# Altium integrated library Linear Technology Power Management System Supervisor, Monitor and Control.IntLib: 1611 symbols (part 53 of 100)
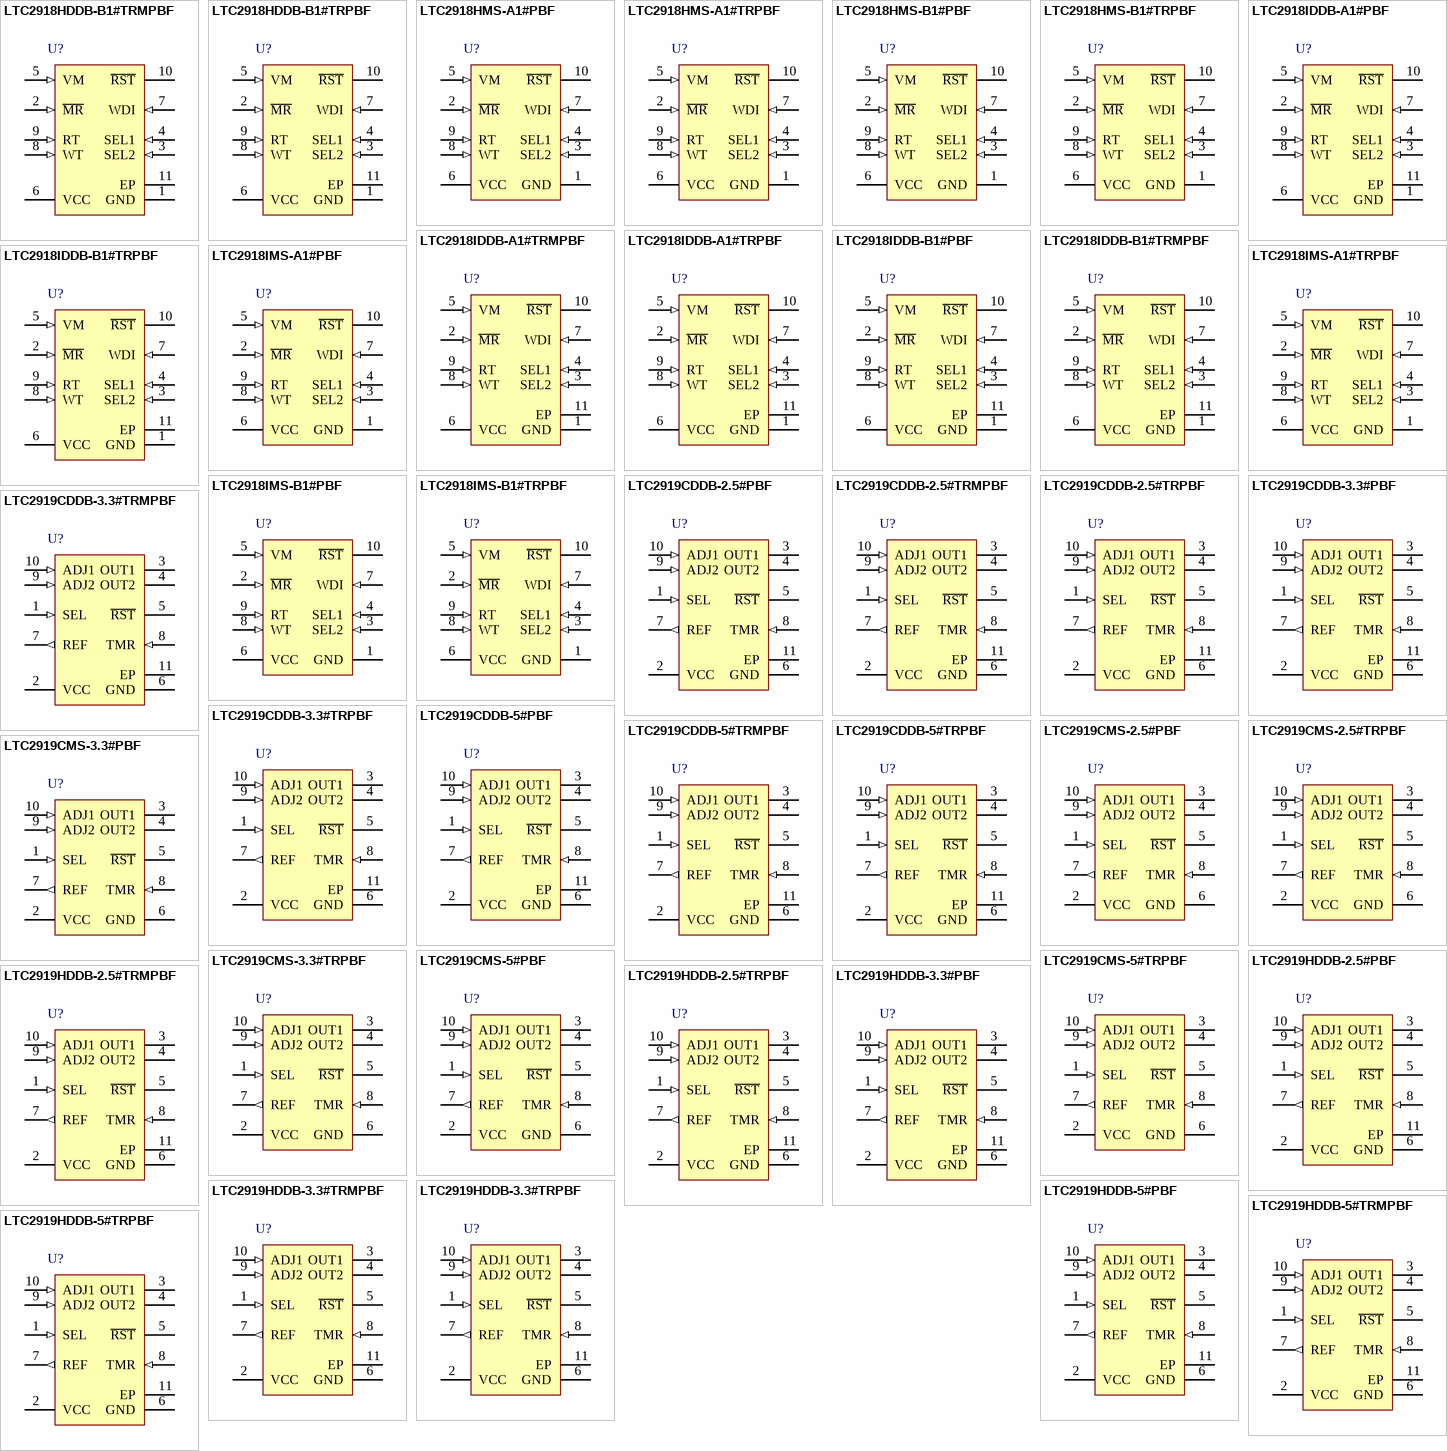
[diagram p97: symbols LTC2918HDDB-B1#TRMPBF to LTC2919HDDB-5#TRPBF]

## LTC2918HMS-A1#PBF
designator U?
Low Voltage Supervisor with 27 Selectable Thresholds and Watchdog Timer, 10-pin SOP (MS-10), -40 to 125 degC, Pb-Free; Manufacturer: Linear Technology; PartNumber: LTC2918HMS-A1#PBF; Number of Supplies(#): 1; DatasheetVersion: Rev. B; PackageVersion: Rev. E, 06/2010; PackageReference: MS-10; PackageDescription: 10-Pin Plastic MSOP, Body 3 x 3 mm, Pitch 0.5 mm; Supplier 1: Digi-Key; Supplier Part Number 1: LTC2918HMS-A1#PBF-ND; Supplier 2: Farnell; Supplier Part Number 2: 2295432; RoHS: TRUE; Mounting Technology: Surface Mount; ComponentLink1Description: Manufacturer URL; ComponentLink1URL: http://www.linear.com/; ComponentLink2Description: Datasheet; ComponentLink2URL: http://cds.linear.com/docs/en/datasheet/29178fb.pdf; ComponentLink3Description: Package Specification; ComponentLink3URL: http://cds.linear.com/docs/en/packaging/05081661_F_MS.pdf
footprint LT-MS-10_N (SOP, 10-Leads, Body 3.1x3.1mm, Pitch 0.5mm, IPC Medium Density)
footprint LT-MS-10_L (SOP, 10-Leads, Body 3.1x3.1mm, Pitch 0.5mm, IPC High Density)
footprint LT-MS-10_M (SOP, 10-Leads, Body 3.1x3.1mm, Pitch 0.5mm, IPC Low Density)
pins: 1 GND (power) "Device Ground.", 2 ~{MR} (in) "Manual Reset Input (Active Low). A low level on the M\R\ input causes the part to issue a reset, which is released one reset timeout after the input goes high. The pin has an internal 100k pull-up to VCC, and thus may (See Datasheet)", 3 SEL2 (in) "Monitor Voltage Select Three-State Input. SEL1, and SEL2 control the nominal threshold voltage that VM is set to monitor. Connect to VCC, GND or leave unconnected in open state. (See Table 1).", 4 SEL1 (in) "Monitor Voltage Select Three-State Input. SEL1, and SEL2 control the nominal threshold voltage that VM is set to monitor. Connect to VCC, GND or leave unconnected in open state. (See Table 1).", 5 VM (in) "Voltage Monitor Input to R\S\T\ comparator. SEL1, SEL2 and TOL inputs select the exact threshold that asserts the R\S\T\ output.", 6 VCC (power) "Power Supply input. Bypass this pin to ground with a 0.1uF ceramic capacitor. A minimum of 1.5V on VCC ensures that the part is out of under voltage lockout and that the voltage thresholds are accurate. Operates as a direct (See Datasheet)", 7 WDI (in) "Watchdog Input. This pin must be driven to change state within a time less than the watchdog upper boundary time, or R\S\T\ will be asserted low. On the LTC2917-B, LTC2918-B, the period must also be greater than the watchdog (See Datasheet)", 8 WT (in) "Watchdog Timer Control Pin. Attach an external capacitor (CWT) to GND to set a watchdog upper boundary timeout time of 72ms/nF. Tie WT to VCC to generate a timeout of approximately 1.6s. Leave WT open to generate a timeout (See Datasheet)", 9 RT (in) "Reset Timeout Control Pin. Attach an external capacitor (CRT) to GND to set a reset timeout of 9ms/nF. Leave RT open to generate a reset timeout of approximately 400us. Tie RT to VCC to generate a reset timeout of (See Datasheet)", 10 ~{RST} (oc) "Open Drain R\S\T\ Output. Asserts low when VM is below the threshold selected by SEL1, SEL2 and TOL input pins. Held low for an adjustable timeout after VM input is above threshold."

## LTC2918HMS-A1#TRPBF
designator U?
Low Voltage Supervisor with 27 Selectable Thresholds and Watchdog Timer, 10-pin SOP (MS-10), -40 to 125 degC, Pb-Free, Tape and Reel; Manufacturer: Linear Technology; PartNumber: LTC2918HMS-A1#TRPBF; Number of Supplies(#): 1; DatasheetVersion: Rev. B; PackageVersion: Rev. E, 06/2010; PackageReference: MS-10; PackageDescription: 10-Pin Plastic MSOP, Body 3 x 3 mm, Pitch 0.5 mm; Supplier 1: Digi-Key; Supplier Part Number 1: LTC2918HMS-A1#TRPBF-ND; Packing: Tape and Reel; RoHS: TRUE; Mounting Technology: Surface Mount; ComponentLink1Description: Manufacturer URL; ComponentLink1URL: http://www.linear.com/; ComponentLink2Description: Datasheet; ComponentLink2URL: http://cds.linear.com/docs/en/datasheet/29178fb.pdf; ComponentLink3Description: Package Specification; ComponentLink3URL: http://cds.linear.com/docs/en/packaging/05081661_F_MS.pdf
footprint LT-MS-10_N (SOP, 10-Leads, Body 3.1x3.1mm, Pitch 0.5mm, IPC Medium Density)
footprint LT-MS-10_L (SOP, 10-Leads, Body 3.1x3.1mm, Pitch 0.5mm, IPC High Density)
footprint LT-MS-10_M (SOP, 10-Leads, Body 3.1x3.1mm, Pitch 0.5mm, IPC Low Density)
pins: 1 GND (power) "Device Ground.", 2 ~{MR} (in) "Manual Reset Input (Active Low). A low level on the M\R\ input causes the part to issue a reset, which is released one reset timeout after the input goes high. The pin has an internal 100k pull-up to VCC, and thus may (See Datasheet)", 3 SEL2 (in) "Monitor Voltage Select Three-State Input. SEL1, and SEL2 control the nominal threshold voltage that VM is set to monitor. Connect to VCC, GND or leave unconnected in open state. (See Table 1).", 4 SEL1 (in) "Monitor Voltage Select Three-State Input. SEL1, and SEL2 control the nominal threshold voltage that VM is set to monitor. Connect to VCC, GND or leave unconnected in open state. (See Table 1).", 5 VM (in) "Voltage Monitor Input to R\S\T\ comparator. SEL1, SEL2 and TOL inputs select the exact threshold that asserts the R\S\T\ output.", 6 VCC (power) "Power Supply input. Bypass this pin to ground with a 0.1uF ceramic capacitor. A minimum of 1.5V on VCC ensures that the part is out of under voltage lockout and that the voltage thresholds are accurate. Operates as a direct (See Datasheet)", 7 WDI (in) "Watchdog Input. This pin must be driven to change state within a time less than the watchdog upper boundary time, or R\S\T\ will be asserted low. On the LTC2917-B, LTC2918-B, the period must also be greater than the watchdog (See Datasheet)", 8 WT (in) "Watchdog Timer Control Pin. Attach an external capacitor (CWT) to GND to set a watchdog upper boundary timeout time of 72ms/nF. Tie WT to VCC to generate a timeout of approximately 1.6s. Leave WT open to generate a timeout (See Datasheet)", 9 RT (in) "Reset Timeout Control Pin. Attach an external capacitor (CRT) to GND to set a reset timeout of 9ms/nF. Leave RT open to generate a reset timeout of approximately 400us. Tie RT to VCC to generate a reset timeout of (See Datasheet)", 10 ~{RST} (oc) "Open Drain R\S\T\ Output. Asserts low when VM is below the threshold selected by SEL1, SEL2 and TOL input pins. Held low for an adjustable timeout after VM input is above threshold."

## LTC2918HMS-B1#PBF
designator U?
Low Voltage Supervisor with 27 Selectable Thresholds and Watchdog Timer, 10-pin SOP (MS-10), -40 to 125 degC, Pb-Free; Manufacturer: Linear Technology; PartNumber: LTC2918HMS-B1#PBF; Number of Supplies(#): 1; DatasheetVersion: Rev. B; PackageVersion: Rev. E, 06/2010; PackageReference: MS-10; PackageDescription: 10-Pin Plastic MSOP, Body 3 x 3 mm, Pitch 0.5 mm; Supplier 1: Digi-Key; Supplier Part Number 1: LTC2918HMS-B1#PBF-ND; RoHS: TRUE; Mounting Technology: Surface Mount; ComponentLink1Description: Manufacturer URL; ComponentLink1URL: http://www.linear.com/; ComponentLink2Description: Datasheet; ComponentLink2URL: http://cds.linear.com/docs/en/datasheet/29178fb.pdf; ComponentLink3Description: Package Specification; ComponentLink3URL: http://cds.linear.com/docs/en/packaging/05081661_F_MS.pdf
footprint LT-MS-10_N (SOP, 10-Leads, Body 3.1x3.1mm, Pitch 0.5mm, IPC Medium Density)
footprint LT-MS-10_L (SOP, 10-Leads, Body 3.1x3.1mm, Pitch 0.5mm, IPC High Density)
footprint LT-MS-10_M (SOP, 10-Leads, Body 3.1x3.1mm, Pitch 0.5mm, IPC Low Density)
pins: 1 GND (power) "Device Ground.", 2 ~{MR} (in) "Manual Reset Input (Active Low). A low level on the M\R\ input causes the part to issue a reset, which is released one reset timeout after the input goes high. The pin has an internal 100k pull-up to VCC, and thus may (See Datasheet)", 3 SEL2 (in) "Monitor Voltage Select Three-State Input. SEL1, and SEL2 control the nominal threshold voltage that VM is set to monitor. Connect to VCC, GND or leave unconnected in open state. (See Table 1).", 4 SEL1 (in) "Monitor Voltage Select Three-State Input. SEL1, and SEL2 control the nominal threshold voltage that VM is set to monitor. Connect to VCC, GND or leave unconnected in open state. (See Table 1).", 5 VM (in) "Voltage Monitor Input to R\S\T\ comparator. SEL1, SEL2 and TOL inputs select the exact threshold that asserts the R\S\T\ output.", 6 VCC (power) "Power Supply input. Bypass this pin to ground with a 0.1uF ceramic capacitor. A minimum of 1.5V on VCC ensures that the part is out of under voltage lockout and that the voltage thresholds are accurate. Operates as a direct (See Datasheet)", 7 WDI (in) "Watchdog Input. This pin must be driven to change state within a time less than the watchdog upper boundary time, or R\S\T\ will be asserted low. On the LTC2917-B, LTC2918-B, the period must also be greater than the watchdog (See Datasheet)", 8 WT (in) "Watchdog Timer Control Pin. Attach an external capacitor (CWT) to GND to set a watchdog upper boundary timeout time of 72ms/nF. Tie WT to VCC to generate a timeout of approximately 1.6s. Leave WT open to generate a timeout (See Datasheet)", 9 RT (in) "Reset Timeout Control Pin. Attach an external capacitor (CRT) to GND to set a reset timeout of 9ms/nF. Leave RT open to generate a reset timeout of approximately 400us. Tie RT to VCC to generate a reset timeout of (See Datasheet)", 10 ~{RST} (oc) "Open Drain R\S\T\ Output. Asserts low when VM is below the threshold selected by SEL1, SEL2 and TOL input pins. Held low for an adjustable timeout after VM input is above threshold."

## LTC2918HMS-B1#TRPBF
designator U?
Low Voltage Supervisor with 27 Selectable Thresholds and Watchdog Timer, 10-pin SOP (MS-10), -40 to 125 degC, Pb-Free, Tape and Reel; Manufacturer: Linear Technology; PartNumber: LTC2918HMS-B1#TRPBF; Number of Supplies(#): 1; DatasheetVersion: Rev. B; PackageVersion: Rev. E, 06/2010; PackageReference: MS-10; PackageDescription: 10-Pin Plastic MSOP, Body 3 x 3 mm, Pitch 0.5 mm; Supplier 1: Digi-Key; Supplier Part Number 1: LTC2918HMS-B1#TRPBF-ND; Packing: Tape and Reel; RoHS: TRUE; Mounting Technology: Surface Mount; ComponentLink1Description: Manufacturer URL; ComponentLink1URL: http://www.linear.com/; ComponentLink2Description: Datasheet; ComponentLink2URL: http://cds.linear.com/docs/en/datasheet/29178fb.pdf; ComponentLink3Description: Package Specification; ComponentLink3URL: http://cds.linear.com/docs/en/packaging/05081661_F_MS.pdf
footprint LT-MS-10_N (SOP, 10-Leads, Body 3.1x3.1mm, Pitch 0.5mm, IPC Medium Density)
footprint LT-MS-10_L (SOP, 10-Leads, Body 3.1x3.1mm, Pitch 0.5mm, IPC High Density)
footprint LT-MS-10_M (SOP, 10-Leads, Body 3.1x3.1mm, Pitch 0.5mm, IPC Low Density)
pins: 1 GND (power) "Device Ground.", 2 ~{MR} (in) "Manual Reset Input (Active Low). A low level on the M\R\ input causes the part to issue a reset, which is released one reset timeout after the input goes high. The pin has an internal 100k pull-up to VCC, and thus may (See Datasheet)", 3 SEL2 (in) "Monitor Voltage Select Three-State Input. SEL1, and SEL2 control the nominal threshold voltage that VM is set to monitor. Connect to VCC, GND or leave unconnected in open state. (See Table 1).", 4 SEL1 (in) "Monitor Voltage Select Three-State Input. SEL1, and SEL2 control the nominal threshold voltage that VM is set to monitor. Connect to VCC, GND or leave unconnected in open state. (See Table 1).", 5 VM (in) "Voltage Monitor Input to R\S\T\ comparator. SEL1, SEL2 and TOL inputs select the exact threshold that asserts the R\S\T\ output.", 6 VCC (power) "Power Supply input. Bypass this pin to ground with a 0.1uF ceramic capacitor. A minimum of 1.5V on VCC ensures that the part is out of under voltage lockout and that the voltage thresholds are accurate. Operates as a direct (See Datasheet)", 7 WDI (in) "Watchdog Input. This pin must be driven to change state within a time less than the watchdog upper boundary time, or R\S\T\ will be asserted low. On the LTC2917-B, LTC2918-B, the period must also be greater than the watchdog (See Datasheet)", 8 WT (in) "Watchdog Timer Control Pin. Attach an external capacitor (CWT) to GND to set a watchdog upper boundary timeout time of 72ms/nF. Tie WT to VCC to generate a timeout of approximately 1.6s. Leave WT open to generate a timeout (See Datasheet)", 9 RT (in) "Reset Timeout Control Pin. Attach an external capacitor (CRT) to GND to set a reset timeout of 9ms/nF. Leave RT open to generate a reset timeout of approximately 400us. Tie RT to VCC to generate a reset timeout of (See Datasheet)", 10 ~{RST} (oc) "Open Drain R\S\T\ Output. Asserts low when VM is below the threshold selected by SEL1, SEL2 and TOL input pins. Held low for an adjustable timeout after VM input is above threshold."

## LTC2918IDDB-A1#PBF
designator U?
Low Voltage Supervisor with 27 Selectable Thresholds and Watchdog Timer, 10-pin SON (DDB10), -40 to 85 degC, Pb-Free; Manufacturer: Linear Technology; PartNumber: LTC2918IDDB-A1#PBF; Number of Supplies(#): 1; DatasheetVersion: Rev. B; PackageVersion: Rev. Ø, 06/2010; PackageReference: DDB10; PackageDescription: 10-Pin Plastic DFN, Body 3 x 2 mm, Pitch 0.5 mm; RoHS: TRUE; Mounting Technology: Surface Mount; Code_JEDEC: MO-229; ComponentLink1Description: Manufacturer URL; ComponentLink1URL: http://www.linear.com/; ComponentLink2Description: Datasheet; ComponentLink2URL: http://cds.linear.com/docs/en/datasheet/29178fb.pdf; ComponentLink3Description: Package Specification; ComponentLink3URL: http://cds.linear.com/docs/en/packaging/DFN_10_05-08-1722.pdf
footprint LT-DDB-10_V (SON, 10-Leads, Body 3x2mm, Pitch 0.5mm, Thermal Pad 2.39x0.64mm)
pins: 1 GND (power) "Device Ground.", 2 ~{MR} (in) "Manual Reset Input (Active Low). A low level on the M\R\ input causes the part to issue a reset, which is released one reset timeout after the input goes high. The pin has an internal 100k pull-up to VCC, and thus may (See Datasheet)", 3 SEL2 (in) "Monitor Voltage Select Three-State Input. SEL1, and SEL2 control the nominal threshold voltage that VM is set to monitor. Connect to VCC, GND or leave unconnected in open state. (See Table 1).", 4 SEL1 (in) "Monitor Voltage Select Three-State Input. SEL1, and SEL2 control the nominal threshold voltage that VM is set to monitor. Connect to VCC, GND or leave unconnected in open state. (See Table 1).", 5 VM (in) "Voltage Monitor Input to R\S\T\ comparator. SEL1, SEL2 and TOL inputs select the exact threshold that asserts the R\S\T\ output.", 6 VCC (power) "Power Supply input. Bypass this pin to ground with a 0.1uF ceramic capacitor. A minimum of 1.5V on VCC ensures that the part is out of under voltage lockout and that the voltage thresholds are accurate. Operates as a direct (See Datasheet)", 7 WDI (in) "Watchdog Input. This pin must be driven to change state within a time less than the watchdog upper boundary time, or R\S\T\ will be asserted low. On the LTC2917-B, LTC2918-B, the period must also be greater than the watchdog (See Datasheet)", 8 WT (in) "Watchdog Timer Control Pin. Attach an external capacitor (CWT) to GND to set a watchdog upper boundary timeout time of 72ms/nF. Tie WT to VCC to generate a timeout of approximately 1.6s. Leave WT open to generate a timeout (See Datasheet)", 9 RT (in) "Reset Timeout Control Pin. Attach an external capacitor (CRT) to GND to set a reset timeout of 9ms/nF. Leave RT open to generate a reset timeout of approximately 400us. Tie RT to VCC to generate a reset timeout of (See Datasheet)", 10 ~{RST} (oc) "Open Drain R\S\T\ Output. Asserts low when VM is below the threshold selected by SEL1, SEL2 and TOL input pins. Held low for an adjustable timeout after VM input is above threshold.", 11 EP (power) "Exposed Pad may be left open or connected to device ground."

## LTC2918IDDB-A1#TRMPBF
designator U?
Low Voltage Supervisor with 27 Selectable Thresholds and Watchdog Timer, 10-pin SON (DDB10), -40 to 85 degC, Pb-Free, Mini Tape and Reel; Manufacturer: Linear Technology; PartNumber: LTC2918IDDB-A1#TRMPBF; Number of Supplies(#): 1; DatasheetVersion: Rev. B; PackageVersion: Rev. Ø, 06/2010; PackageReference: DDB10; PackageDescription: 10-Pin Plastic DFN, Body 3 x 2 mm, Pitch 0.5 mm; Supplier 1: Digi-Key; Supplier Part Number 1: LTC2918IDDB-A1#TRMPBF-ND; Packing: Mini Tape and Reel; RoHS: TRUE; Mounting Technology: Surface Mount; Code_JEDEC: MO-229; ComponentLink1Description: Manufacturer URL; ComponentLink1URL: http://www.linear.com/; ComponentLink2Description: Datasheet; ComponentLink2URL: http://cds.linear.com/docs/en/datasheet/29178fb.pdf; ComponentLink3Description: Package Specification; ComponentLink3URL: http://cds.linear.com/docs/en/packaging/DFN_10_05-08-1722.pdf
footprint LT-DDB-10_V (SON, 10-Leads, Body 3x2mm, Pitch 0.5mm, Thermal Pad 2.39x0.64mm)
pins: 1 GND (power) "Device Ground.", 2 ~{MR} (in) "Manual Reset Input (Active Low). A low level on the M\R\ input causes the part to issue a reset, which is released one reset timeout after the input goes high. The pin has an internal 100k pull-up to VCC, and thus may (See Datasheet)", 3 SEL2 (in) "Monitor Voltage Select Three-State Input. SEL1, and SEL2 control the nominal threshold voltage that VM is set to monitor. Connect to VCC, GND or leave unconnected in open state. (See Table 1).", 4 SEL1 (in) "Monitor Voltage Select Three-State Input. SEL1, and SEL2 control the nominal threshold voltage that VM is set to monitor. Connect to VCC, GND or leave unconnected in open state. (See Table 1).", 5 VM (in) "Voltage Monitor Input to R\S\T\ comparator. SEL1, SEL2 and TOL inputs select the exact threshold that asserts the R\S\T\ output.", 6 VCC (power) "Power Supply input. Bypass this pin to ground with a 0.1uF ceramic capacitor. A minimum of 1.5V on VCC ensures that the part is out of under voltage lockout and that the voltage thresholds are accurate. Operates as a direct (See Datasheet)", 7 WDI (in) "Watchdog Input. This pin must be driven to change state within a time less than the watchdog upper boundary time, or R\S\T\ will be asserted low. On the LTC2917-B, LTC2918-B, the period must also be greater than the watchdog (See Datasheet)", 8 WT (in) "Watchdog Timer Control Pin. Attach an external capacitor (CWT) to GND to set a watchdog upper boundary timeout time of 72ms/nF. Tie WT to VCC to generate a timeout of approximately 1.6s. Leave WT open to generate a timeout (See Datasheet)", 9 RT (in) "Reset Timeout Control Pin. Attach an external capacitor (CRT) to GND to set a reset timeout of 9ms/nF. Leave RT open to generate a reset timeout of approximately 400us. Tie RT to VCC to generate a reset timeout of (See Datasheet)", 10 ~{RST} (oc) "Open Drain R\S\T\ Output. Asserts low when VM is below the threshold selected by SEL1, SEL2 and TOL input pins. Held low for an adjustable timeout after VM input is above threshold.", 11 EP (power) "Exposed Pad may be left open or connected to device ground."

## LTC2918IDDB-A1#TRPBF
designator U?
Low Voltage Supervisor with 27 Selectable Thresholds and Watchdog Timer, 10-pin SON (DDB10), -40 to 85 degC, Pb-Free, Tape and Reel; Manufacturer: Linear Technology; PartNumber: LTC2918IDDB-A1#TRPBF; Number of Supplies(#): 1; DatasheetVersion: Rev. B; PackageVersion: Rev. Ø, 06/2010; PackageReference: DDB10; PackageDescription: 10-Pin Plastic DFN, Body 3 x 2 mm, Pitch 0.5 mm; Supplier 1: Digi-Key; Supplier Part Number 1: LTC2918IDDB-A1#TRPBF-ND; Packing: Tape and Reel; RoHS: TRUE; Mounting Technology: Surface Mount; Code_JEDEC: MO-229; ComponentLink1Description: Manufacturer URL; ComponentLink1URL: http://www.linear.com/; ComponentLink2Description: Datasheet; ComponentLink2URL: http://cds.linear.com/docs/en/datasheet/29178fb.pdf; ComponentLink3Description: Package Specification; ComponentLink3URL: http://cds.linear.com/docs/en/packaging/DFN_10_05-08-1722.pdf
footprint LT-DDB-10_V (SON, 10-Leads, Body 3x2mm, Pitch 0.5mm, Thermal Pad 2.39x0.64mm)
pins: 1 GND (power) "Device Ground.", 2 ~{MR} (in) "Manual Reset Input (Active Low). A low level on the M\R\ input causes the part to issue a reset, which is released one reset timeout after the input goes high. The pin has an internal 100k pull-up to VCC, and thus may (See Datasheet)", 3 SEL2 (in) "Monitor Voltage Select Three-State Input. SEL1, and SEL2 control the nominal threshold voltage that VM is set to monitor. Connect to VCC, GND or leave unconnected in open state. (See Table 1).", 4 SEL1 (in) "Monitor Voltage Select Three-State Input. SEL1, and SEL2 control the nominal threshold voltage that VM is set to monitor. Connect to VCC, GND or leave unconnected in open state. (See Table 1).", 5 VM (in) "Voltage Monitor Input to R\S\T\ comparator. SEL1, SEL2 and TOL inputs select the exact threshold that asserts the R\S\T\ output.", 6 VCC (power) "Power Supply input. Bypass this pin to ground with a 0.1uF ceramic capacitor. A minimum of 1.5V on VCC ensures that the part is out of under voltage lockout and that the voltage thresholds are accurate. Operates as a direct (See Datasheet)", 7 WDI (in) "Watchdog Input. This pin must be driven to change state within a time less than the watchdog upper boundary time, or R\S\T\ will be asserted low. On the LTC2917-B, LTC2918-B, the period must also be greater than the watchdog (See Datasheet)", 8 WT (in) "Watchdog Timer Control Pin. Attach an external capacitor (CWT) to GND to set a watchdog upper boundary timeout time of 72ms/nF. Tie WT to VCC to generate a timeout of approximately 1.6s. Leave WT open to generate a timeout (See Datasheet)", 9 RT (in) "Reset Timeout Control Pin. Attach an external capacitor (CRT) to GND to set a reset timeout of 9ms/nF. Leave RT open to generate a reset timeout of approximately 400us. Tie RT to VCC to generate a reset timeout of (See Datasheet)", 10 ~{RST} (oc) "Open Drain R\S\T\ Output. Asserts low when VM is below the threshold selected by SEL1, SEL2 and TOL input pins. Held low for an adjustable timeout after VM input is above threshold.", 11 EP (power) "Exposed Pad may be left open or connected to device ground."

## LTC2918IDDB-B1#PBF
designator U?
Low Voltage Supervisor with 27 Selectable Thresholds and Watchdog Timer, 10-pin SON (DDB10), -40 to 85 degC, Pb-Free; Manufacturer: Linear Technology; PartNumber: LTC2918IDDB-B1#PBF; Number of Supplies(#): 1; DatasheetVersion: Rev. B; PackageVersion: Rev. Ø, 06/2010; PackageReference: DDB10; PackageDescription: 10-Pin Plastic DFN, Body 3 x 2 mm, Pitch 0.5 mm; RoHS: TRUE; Mounting Technology: Surface Mount; Code_JEDEC: MO-229; ComponentLink1Description: Manufacturer URL; ComponentLink1URL: http://www.linear.com/; ComponentLink2Description: Datasheet; ComponentLink2URL: http://cds.linear.com/docs/en/datasheet/29178fb.pdf; ComponentLink3Description: Package Specification; ComponentLink3URL: http://cds.linear.com/docs/en/packaging/DFN_10_05-08-1722.pdf
footprint LT-DDB-10_V (SON, 10-Leads, Body 3x2mm, Pitch 0.5mm, Thermal Pad 2.39x0.64mm)
pins: 1 GND (power) "Device Ground.", 2 ~{MR} (in) "Manual Reset Input (Active Low). A low level on the M\R\ input causes the part to issue a reset, which is released one reset timeout after the input goes high. The pin has an internal 100k pull-up to VCC, and thus may (See Datasheet)", 3 SEL2 (in) "Monitor Voltage Select Three-State Input. SEL1, and SEL2 control the nominal threshold voltage that VM is set to monitor. Connect to VCC, GND or leave unconnected in open state. (See Table 1).", 4 SEL1 (in) "Monitor Voltage Select Three-State Input. SEL1, and SEL2 control the nominal threshold voltage that VM is set to monitor. Connect to VCC, GND or leave unconnected in open state. (See Table 1).", 5 VM (in) "Voltage Monitor Input to R\S\T\ comparator. SEL1, SEL2 and TOL inputs select the exact threshold that asserts the R\S\T\ output.", 6 VCC (power) "Power Supply input. Bypass this pin to ground with a 0.1uF ceramic capacitor. A minimum of 1.5V on VCC ensures that the part is out of under voltage lockout and that the voltage thresholds are accurate. Operates as a direct (See Datasheet)", 7 WDI (in) "Watchdog Input. This pin must be driven to change state within a time less than the watchdog upper boundary time, or R\S\T\ will be asserted low. On the LTC2917-B, LTC2918-B, the period must also be greater than the watchdog (See Datasheet)", 8 WT (in) "Watchdog Timer Control Pin. Attach an external capacitor (CWT) to GND to set a watchdog upper boundary timeout time of 72ms/nF. Tie WT to VCC to generate a timeout of approximately 1.6s. Leave WT open to generate a timeout (See Datasheet)", 9 RT (in) "Reset Timeout Control Pin. Attach an external capacitor (CRT) to GND to set a reset timeout of 9ms/nF. Leave RT open to generate a reset timeout of approximately 400us. Tie RT to VCC to generate a reset timeout of (See Datasheet)", 10 ~{RST} (oc) "Open Drain R\S\T\ Output. Asserts low when VM is below the threshold selected by SEL1, SEL2 and TOL input pins. Held low for an adjustable timeout after VM input is above threshold.", 11 EP (power) "Exposed Pad may be left open or connected to device ground."

## LTC2918IDDB-B1#TRMPBF
designator U?
Low Voltage Supervisor with 27 Selectable Thresholds and Watchdog Timer, 10-pin SON (DDB10), -40 to 85 degC, Pb-Free, Mini Tape and Reel; Manufacturer: Linear Technology; PartNumber: LTC2918IDDB-B1#TRMPBF; Number of Supplies(#): 1; DatasheetVersion: Rev. B; PackageVersion: Rev. Ø, 06/2010; PackageReference: DDB10; PackageDescription: 10-Pin Plastic DFN, Body 3 x 2 mm, Pitch 0.5 mm; Supplier 1: Digi-Key; Supplier Part Number 1: LTC2918IDDB-B1#TRMPBF-ND; Packing: Mini Tape and Reel; RoHS: TRUE; Mounting Technology: Surface Mount; Code_JEDEC: MO-229; ComponentLink1Description: Manufacturer URL; ComponentLink1URL: http://www.linear.com/; ComponentLink2Description: Datasheet; ComponentLink2URL: http://cds.linear.com/docs/en/datasheet/29178fb.pdf; ComponentLink3Description: Package Specification; ComponentLink3URL: http://cds.linear.com/docs/en/packaging/DFN_10_05-08-1722.pdf
footprint LT-DDB-10_V (SON, 10-Leads, Body 3x2mm, Pitch 0.5mm, Thermal Pad 2.39x0.64mm)
pins: 1 GND (power) "Device Ground.", 2 ~{MR} (in) "Manual Reset Input (Active Low). A low level on the M\R\ input causes the part to issue a reset, which is released one reset timeout after the input goes high. The pin has an internal 100k pull-up to VCC, and thus may (See Datasheet)", 3 SEL2 (in) "Monitor Voltage Select Three-State Input. SEL1, and SEL2 control the nominal threshold voltage that VM is set to monitor. Connect to VCC, GND or leave unconnected in open state. (See Table 1).", 4 SEL1 (in) "Monitor Voltage Select Three-State Input. SEL1, and SEL2 control the nominal threshold voltage that VM is set to monitor. Connect to VCC, GND or leave unconnected in open state. (See Table 1).", 5 VM (in) "Voltage Monitor Input to R\S\T\ comparator. SEL1, SEL2 and TOL inputs select the exact threshold that asserts the R\S\T\ output.", 6 VCC (power) "Power Supply input. Bypass this pin to ground with a 0.1uF ceramic capacitor. A minimum of 1.5V on VCC ensures that the part is out of under voltage lockout and that the voltage thresholds are accurate. Operates as a direct (See Datasheet)", 7 WDI (in) "Watchdog Input. This pin must be driven to change state within a time less than the watchdog upper boundary time, or R\S\T\ will be asserted low. On the LTC2917-B, LTC2918-B, the period must also be greater than the watchdog (See Datasheet)", 8 WT (in) "Watchdog Timer Control Pin. Attach an external capacitor (CWT) to GND to set a watchdog upper boundary timeout time of 72ms/nF. Tie WT to VCC to generate a timeout of approximately 1.6s. Leave WT open to generate a timeout (See Datasheet)", 9 RT (in) "Reset Timeout Control Pin. Attach an external capacitor (CRT) to GND to set a reset timeout of 9ms/nF. Leave RT open to generate a reset timeout of approximately 400us. Tie RT to VCC to generate a reset timeout of (See Datasheet)", 10 ~{RST} (oc) "Open Drain R\S\T\ Output. Asserts low when VM is below the threshold selected by SEL1, SEL2 and TOL input pins. Held low for an adjustable timeout after VM input is above threshold.", 11 EP (power) "Exposed Pad may be left open or connected to device ground."

## LTC2918IDDB-B1#TRPBF
designator U?
Low Voltage Supervisor with 27 Selectable Thresholds and Watchdog Timer, 10-pin SON (DDB10), -40 to 85 degC, Pb-Free, Tape and Reel; Manufacturer: Linear Technology; PartNumber: LTC2918IDDB-B1#TRPBF; Number of Supplies(#): 1; DatasheetVersion: Rev. B; PackageVersion: Rev. Ø, 06/2010; PackageReference: DDB10; PackageDescription: 10-Pin Plastic DFN, Body 3 x 2 mm, Pitch 0.5 mm; Supplier 1: Digi-Key; Supplier Part Number 1: LTC2918IDDB-B1#TRPBF-ND; Packing: Tape and Reel; RoHS: TRUE; Mounting Technology: Surface Mount; Code_JEDEC: MO-229; ComponentLink1Description: Manufacturer URL; ComponentLink1URL: http://www.linear.com/; ComponentLink2Description: Datasheet; ComponentLink2URL: http://cds.linear.com/docs/en/datasheet/29178fb.pdf; ComponentLink3Description: Package Specification; ComponentLink3URL: http://cds.linear.com/docs/en/packaging/DFN_10_05-08-1722.pdf
footprint LT-DDB-10_V (SON, 10-Leads, Body 3x2mm, Pitch 0.5mm, Thermal Pad 2.39x0.64mm)
pins: 1 GND (power) "Device Ground.", 2 ~{MR} (in) "Manual Reset Input (Active Low). A low level on the M\R\ input causes the part to issue a reset, which is released one reset timeout after the input goes high. The pin has an internal 100k pull-up to VCC, and thus may (See Datasheet)", 3 SEL2 (in) "Monitor Voltage Select Three-State Input. SEL1, and SEL2 control the nominal threshold voltage that VM is set to monitor. Connect to VCC, GND or leave unconnected in open state. (See Table 1).", 4 SEL1 (in) "Monitor Voltage Select Three-State Input. SEL1, and SEL2 control the nominal threshold voltage that VM is set to monitor. Connect to VCC, GND or leave unconnected in open state. (See Table 1).", 5 VM (in) "Voltage Monitor Input to R\S\T\ comparator. SEL1, SEL2 and TOL inputs select the exact threshold that asserts the R\S\T\ output.", 6 VCC (power) "Power Supply input. Bypass this pin to ground with a 0.1uF ceramic capacitor. A minimum of 1.5V on VCC ensures that the part is out of under voltage lockout and that the voltage thresholds are accurate. Operates as a direct (See Datasheet)", 7 WDI (in) "Watchdog Input. This pin must be driven to change state within a time less than the watchdog upper boundary time, or R\S\T\ will be asserted low. On the LTC2917-B, LTC2918-B, the period must also be greater than the watchdog (See Datasheet)", 8 WT (in) "Watchdog Timer Control Pin. Attach an external capacitor (CWT) to GND to set a watchdog upper boundary timeout time of 72ms/nF. Tie WT to VCC to generate a timeout of approximately 1.6s. Leave WT open to generate a timeout (See Datasheet)", 9 RT (in) "Reset Timeout Control Pin. Attach an external capacitor (CRT) to GND to set a reset timeout of 9ms/nF. Leave RT open to generate a reset timeout of approximately 400us. Tie RT to VCC to generate a reset timeout of (See Datasheet)", 10 ~{RST} (oc) "Open Drain R\S\T\ Output. Asserts low when VM is below the threshold selected by SEL1, SEL2 and TOL input pins. Held low for an adjustable timeout after VM input is above threshold.", 11 EP (power) "Exposed Pad may be left open or connected to device ground."

## LTC2918IMS-A1#PBF
designator U?
Low Voltage Supervisor with 27 Selectable Thresholds and Watchdog Timer, 10-pin SOP (MS-10), -40 to 85 degC, Pb-Free; Manufacturer: Linear Technology; PartNumber: LTC2918IMS-A1#PBF; Number of Supplies(#): 1; DatasheetVersion: Rev. B; PackageVersion: Rev. E, 06/2010; PackageReference: MS-10; PackageDescription: 10-Pin Plastic MSOP, Body 3 x 3 mm, Pitch 0.5 mm; Supplier 1: Digi-Key; Supplier Part Number 1: LTC2918IMS-A1#PBF-ND; Supplier 2: Farnell; Supplier Part Number 2: 2295433; Supplier 3: Newark; Supplier Part Number 3: 56M7013; RoHS: TRUE; Mounting Technology: Surface Mount; ComponentLink1Description: Manufacturer URL; ComponentLink1URL: http://www.linear.com/; ComponentLink2Description: Datasheet; ComponentLink2URL: http://cds.linear.com/docs/en/datasheet/29178fb.pdf; ComponentLink3Description: Package Specification; ComponentLink3URL: http://cds.linear.com/docs/en/packaging/05081661_F_MS.pdf
footprint LT-MS-10_N (SOP, 10-Leads, Body 3.1x3.1mm, Pitch 0.5mm, IPC Medium Density)
footprint LT-MS-10_L (SOP, 10-Leads, Body 3.1x3.1mm, Pitch 0.5mm, IPC High Density)
footprint LT-MS-10_M (SOP, 10-Leads, Body 3.1x3.1mm, Pitch 0.5mm, IPC Low Density)
pins: 1 GND (power) "Device Ground.", 2 ~{MR} (in) "Manual Reset Input (Active Low). A low level on the M\R\ input causes the part to issue a reset, which is released one reset timeout after the input goes high. The pin has an internal 100k pull-up to VCC, and thus may (See Datasheet)", 3 SEL2 (in) "Monitor Voltage Select Three-State Input. SEL1, and SEL2 control the nominal threshold voltage that VM is set to monitor. Connect to VCC, GND or leave unconnected in open state. (See Table 1).", 4 SEL1 (in) "Monitor Voltage Select Three-State Input. SEL1, and SEL2 control the nominal threshold voltage that VM is set to monitor. Connect to VCC, GND or leave unconnected in open state. (See Table 1).", 5 VM (in) "Voltage Monitor Input to R\S\T\ comparator. SEL1, SEL2 and TOL inputs select the exact threshold that asserts the R\S\T\ output.", 6 VCC (power) "Power Supply input. Bypass this pin to ground with a 0.1uF ceramic capacitor. A minimum of 1.5V on VCC ensures that the part is out of under voltage lockout and that the voltage thresholds are accurate. Operates as a direct (See Datasheet)", 7 WDI (in) "Watchdog Input. This pin must be driven to change state within a time less than the watchdog upper boundary time, or R\S\T\ will be asserted low. On the LTC2917-B, LTC2918-B, the period must also be greater than the watchdog (See Datasheet)", 8 WT (in) "Watchdog Timer Control Pin. Attach an external capacitor (CWT) to GND to set a watchdog upper boundary timeout time of 72ms/nF. Tie WT to VCC to generate a timeout of approximately 1.6s. Leave WT open to generate a timeout (See Datasheet)", 9 RT (in) "Reset Timeout Control Pin. Attach an external capacitor (CRT) to GND to set a reset timeout of 9ms/nF. Leave RT open to generate a reset timeout of approximately 400us. Tie RT to VCC to generate a reset timeout of (See Datasheet)", 10 ~{RST} (oc) "Open Drain R\S\T\ Output. Asserts low when VM is below the threshold selected by SEL1, SEL2 and TOL input pins. Held low for an adjustable timeout after VM input is above threshold."

## LTC2918IMS-A1#TRPBF
designator U?
Low Voltage Supervisor with 27 Selectable Thresholds and Watchdog Timer, 10-pin SOP (MS-10), -40 to 85 degC, Pb-Free, Tape and Reel; Manufacturer: Linear Technology; PartNumber: LTC2918IMS-A1#TRPBF; Number of Supplies(#): 1; DatasheetVersion: Rev. B; PackageVersion: Rev. E, 06/2010; PackageReference: MS-10; PackageDescription: 10-Pin Plastic MSOP, Body 3 x 3 mm, Pitch 0.5 mm; Supplier 1: Digi-Key; Supplier Part Number 1: LTC2918IMS-A1#TRPBF-ND; Supplier 2: Newark; Supplier Part Number 2: 56M7014; Packing: Tape and Reel; RoHS: TRUE; Mounting Technology: Surface Mount; ComponentLink1Description: Manufacturer URL; ComponentLink1URL: http://www.linear.com/; ComponentLink2Description: Datasheet; ComponentLink2URL: http://cds.linear.com/docs/en/datasheet/29178fb.pdf; ComponentLink3Description: Package Specification; ComponentLink3URL: http://cds.linear.com/docs/en/packaging/05081661_F_MS.pdf
footprint LT-MS-10_N (SOP, 10-Leads, Body 3.1x3.1mm, Pitch 0.5mm, IPC Medium Density)
footprint LT-MS-10_L (SOP, 10-Leads, Body 3.1x3.1mm, Pitch 0.5mm, IPC High Density)
footprint LT-MS-10_M (SOP, 10-Leads, Body 3.1x3.1mm, Pitch 0.5mm, IPC Low Density)
pins: 1 GND (power) "Device Ground.", 2 ~{MR} (in) "Manual Reset Input (Active Low). A low level on the M\R\ input causes the part to issue a reset, which is released one reset timeout after the input goes high. The pin has an internal 100k pull-up to VCC, and thus may (See Datasheet)", 3 SEL2 (in) "Monitor Voltage Select Three-State Input. SEL1, and SEL2 control the nominal threshold voltage that VM is set to monitor. Connect to VCC, GND or leave unconnected in open state. (See Table 1).", 4 SEL1 (in) "Monitor Voltage Select Three-State Input. SEL1, and SEL2 control the nominal threshold voltage that VM is set to monitor. Connect to VCC, GND or leave unconnected in open state. (See Table 1).", 5 VM (in) "Voltage Monitor Input to R\S\T\ comparator. SEL1, SEL2 and TOL inputs select the exact threshold that asserts the R\S\T\ output.", 6 VCC (power) "Power Supply input. Bypass this pin to ground with a 0.1uF ceramic capacitor. A minimum of 1.5V on VCC ensures that the part is out of under voltage lockout and that the voltage thresholds are accurate. Operates as a direct (See Datasheet)", 7 WDI (in) "Watchdog Input. This pin must be driven to change state within a time less than the watchdog upper boundary time, or R\S\T\ will be asserted low. On the LTC2917-B, LTC2918-B, the period must also be greater than the watchdog (See Datasheet)", 8 WT (in) "Watchdog Timer Control Pin. Attach an external capacitor (CWT) to GND to set a watchdog upper boundary timeout time of 72ms/nF. Tie WT to VCC to generate a timeout of approximately 1.6s. Leave WT open to generate a timeout (See Datasheet)", 9 RT (in) "Reset Timeout Control Pin. Attach an external capacitor (CRT) to GND to set a reset timeout of 9ms/nF. Leave RT open to generate a reset timeout of approximately 400us. Tie RT to VCC to generate a reset timeout of (See Datasheet)", 10 ~{RST} (oc) "Open Drain R\S\T\ Output. Asserts low when VM is below the threshold selected by SEL1, SEL2 and TOL input pins. Held low for an adjustable timeout after VM input is above threshold."

## LTC2918IMS-B1#PBF
designator U?
Low Voltage Supervisor with 27 Selectable Thresholds and Watchdog Timer, 10-pin SOP (MS-10), -40 to 85 degC, Pb-Free; Manufacturer: Linear Technology; PartNumber: LTC2918IMS-B1#PBF; Number of Supplies(#): 1; DatasheetVersion: Rev. B; PackageVersion: Rev. E, 06/2010; PackageReference: MS-10; PackageDescription: 10-Pin Plastic MSOP, Body 3 x 3 mm, Pitch 0.5 mm; Supplier 1: Digi-Key; Supplier Part Number 1: LTC2918IMS-B1#PBF-ND; Supplier 2: Farnell; Supplier Part Number 2: 2295434; Supplier 3: Newark; Supplier Part Number 3: 56M7015; RoHS: TRUE; Mounting Technology: Surface Mount; ComponentLink1Description: Manufacturer URL; ComponentLink1URL: http://www.linear.com/; ComponentLink2Description: Datasheet; ComponentLink2URL: http://cds.linear.com/docs/en/datasheet/29178fb.pdf; ComponentLink3Description: Package Specification; ComponentLink3URL: http://cds.linear.com/docs/en/packaging/05081661_F_MS.pdf
footprint LT-MS-10_N (SOP, 10-Leads, Body 3.1x3.1mm, Pitch 0.5mm, IPC Medium Density)
footprint LT-MS-10_L (SOP, 10-Leads, Body 3.1x3.1mm, Pitch 0.5mm, IPC High Density)
footprint LT-MS-10_M (SOP, 10-Leads, Body 3.1x3.1mm, Pitch 0.5mm, IPC Low Density)
pins: 1 GND (power) "Device Ground.", 2 ~{MR} (in) "Manual Reset Input (Active Low). A low level on the M\R\ input causes the part to issue a reset, which is released one reset timeout after the input goes high. The pin has an internal 100k pull-up to VCC, and thus may (See Datasheet)", 3 SEL2 (in) "Monitor Voltage Select Three-State Input. SEL1, and SEL2 control the nominal threshold voltage that VM is set to monitor. Connect to VCC, GND or leave unconnected in open state. (See Table 1).", 4 SEL1 (in) "Monitor Voltage Select Three-State Input. SEL1, and SEL2 control the nominal threshold voltage that VM is set to monitor. Connect to VCC, GND or leave unconnected in open state. (See Table 1).", 5 VM (in) "Voltage Monitor Input to R\S\T\ comparator. SEL1, SEL2 and TOL inputs select the exact threshold that asserts the R\S\T\ output.", 6 VCC (power) "Power Supply input. Bypass this pin to ground with a 0.1uF ceramic capacitor. A minimum of 1.5V on VCC ensures that the part is out of under voltage lockout and that the voltage thresholds are accurate. Operates as a direct (See Datasheet)", 7 WDI (in) "Watchdog Input. This pin must be driven to change state within a time less than the watchdog upper boundary time, or R\S\T\ will be asserted low. On the LTC2917-B, LTC2918-B, the period must also be greater than the watchdog (See Datasheet)", 8 WT (in) "Watchdog Timer Control Pin. Attach an external capacitor (CWT) to GND to set a watchdog upper boundary timeout time of 72ms/nF. Tie WT to VCC to generate a timeout of approximately 1.6s. Leave WT open to generate a timeout (See Datasheet)", 9 RT (in) "Reset Timeout Control Pin. Attach an external capacitor (CRT) to GND to set a reset timeout of 9ms/nF. Leave RT open to generate a reset timeout of approximately 400us. Tie RT to VCC to generate a reset timeout of (See Datasheet)", 10 ~{RST} (oc) "Open Drain R\S\T\ Output. Asserts low when VM is below the threshold selected by SEL1, SEL2 and TOL input pins. Held low for an adjustable timeout after VM input is above threshold."

## LTC2918IMS-B1#TRPBF
designator U?
Low Voltage Supervisor with 27 Selectable Thresholds and Watchdog Timer, 10-pin SOP (MS-10), -40 to 85 degC, Pb-Free, Tape and Reel; Manufacturer: Linear Technology; PartNumber: LTC2918IMS-B1#TRPBF; Number of Supplies(#): 1; DatasheetVersion: Rev. B; PackageVersion: Rev. E, 06/2010; PackageReference: MS-10; PackageDescription: 10-Pin Plastic MSOP, Body 3 x 3 mm, Pitch 0.5 mm; Supplier 1: Digi-Key; Supplier Part Number 1: LTC2918IMS-B1#TRPBF-ND; Packing: Tape and Reel; RoHS: TRUE; Mounting Technology: Surface Mount; ComponentLink1Description: Manufacturer URL; ComponentLink1URL: http://www.linear.com/; ComponentLink2Description: Datasheet; ComponentLink2URL: http://cds.linear.com/docs/en/datasheet/29178fb.pdf; ComponentLink3Description: Package Specification; ComponentLink3URL: http://cds.linear.com/docs/en/packaging/05081661_F_MS.pdf
footprint LT-MS-10_N (SOP, 10-Leads, Body 3.1x3.1mm, Pitch 0.5mm, IPC Medium Density)
footprint LT-MS-10_L (SOP, 10-Leads, Body 3.1x3.1mm, Pitch 0.5mm, IPC High Density)
footprint LT-MS-10_M (SOP, 10-Leads, Body 3.1x3.1mm, Pitch 0.5mm, IPC Low Density)
pins: 1 GND (power) "Device Ground.", 2 ~{MR} (in) "Manual Reset Input (Active Low). A low level on the M\R\ input causes the part to issue a reset, which is released one reset timeout after the input goes high. The pin has an internal 100k pull-up to VCC, and thus may (See Datasheet)", 3 SEL2 (in) "Monitor Voltage Select Three-State Input. SEL1, and SEL2 control the nominal threshold voltage that VM is set to monitor. Connect to VCC, GND or leave unconnected in open state. (See Table 1).", 4 SEL1 (in) "Monitor Voltage Select Three-State Input. SEL1, and SEL2 control the nominal threshold voltage that VM is set to monitor. Connect to VCC, GND or leave unconnected in open state. (See Table 1).", 5 VM (in) "Voltage Monitor Input to R\S\T\ comparator. SEL1, SEL2 and TOL inputs select the exact threshold that asserts the R\S\T\ output.", 6 VCC (power) "Power Supply input. Bypass this pin to ground with a 0.1uF ceramic capacitor. A minimum of 1.5V on VCC ensures that the part is out of under voltage lockout and that the voltage thresholds are accurate. Operates as a direct (See Datasheet)", 7 WDI (in) "Watchdog Input. This pin must be driven to change state within a time less than the watchdog upper boundary time, or R\S\T\ will be asserted low. On the LTC2917-B, LTC2918-B, the period must also be greater than the watchdog (See Datasheet)", 8 WT (in) "Watchdog Timer Control Pin. Attach an external capacitor (CWT) to GND to set a watchdog upper boundary timeout time of 72ms/nF. Tie WT to VCC to generate a timeout of approximately 1.6s. Leave WT open to generate a timeout (See Datasheet)", 9 RT (in) "Reset Timeout Control Pin. Attach an external capacitor (CRT) to GND to set a reset timeout of 9ms/nF. Leave RT open to generate a reset timeout of approximately 400us. Tie RT to VCC to generate a reset timeout of (See Datasheet)", 10 ~{RST} (oc) "Open Drain R\S\T\ Output. Asserts low when VM is below the threshold selected by SEL1, SEL2 and TOL input pins. Held low for an adjustable timeout after VM input is above threshold."

## LTC2919CDDB-2.5#PBF
designator U?
Precision Triple / Dual Input UV, OV and Negative Voltage Monitor, 10-pin SON (DDB10), 0 to 70 degC, Pb-Free; Manufacturer: Linear Technology; PartNumber: LTC2919CDDB-2.5#PBF; Number of Supplies(#): 3; PackageVersion: Rev. Ø, 06/2010; PackageReference: DDB10; PackageDescription: 10-Pin Plastic DFN, Body 3 x 2 mm, Pitch 0.5 mm; RoHS: TRUE; Mounting Technology: Surface Mount; Code_JEDEC: MO-229; ComponentLink1Description: Manufacturer URL; ComponentLink1URL: http://www.linear.com/; ComponentLink2Description: Datasheet; ComponentLink2URL: http://cds.linear.com/docs/en/datasheet/2919f.pdf; ComponentLink3Description: Package Specification; ComponentLink3URL: http://cds.linear.com/docs/en/packaging/DFN_10_05-08-1722.pdf
footprint LT-DDB-10_V (SON, 10-Leads, Body 3x2mm, Pitch 0.5mm, Thermal Pad 2.39x0.64mm)
pins: 1 SEL (in) "Input Polarity Select Three-State Input. Connect to VCC, GND or leave unconnected in open state to select one of three possible input polarity combinations (refer to Table 1).", 2 VCC (power) "Power Supply. Bypass this pin to ground with a 0.1uF (or greater) capacitor. Operates as a direct supply input for voltages up to 6V. Operates as a shunt regulator for supply voltages greater than 6V and should have a (See Datasheet)", 3 OUT1 (oc) "Open-Drain Logic Output 1. Asserts low when positive polarity ADJ1 voltage is below threshold or negative polarity ADJ1 voltage is above threshold. Requires an external pull-up resistor and may be pulled above VCC.", 4 OUT2 (oc) "Open-Drain Logic Output 2. Asserts low when positive polarity ADJ2 voltage is below threshold or negative polarity ADJ2 voltage is above threshold. Requires an external pull-up resistor and may be pulled above VCC.", 5 ~{RST} (oc) "Open-Drain Inverted Reset Logic Output. Asserts low when any positive polarity input voltage is below threshold or any negative polarity input voltage is above threshold or VCC is below UVLO threshold. Held low for a timeout (See Datasheet)", 6 GND (power) "Device Ground.", 7 REF (out) "Buffered Reference Output. 1V nominal reference used for the offset of negative-monitoring applications. The buffered reference can source and sink up to 1mA. The reference can drive a capacitive load of up to 1000pF. Larger (See Datasheet)", 8 TMR (in) "Reset Timeout Control. Attach an external capacitor (CTMR) to GND to set a reset timeout period of 9ms/nF. A low leakage ceramic capacitor is recommended for timer accuracy. Capacitors larger than 1uF (9 second timeout) are (See Datasheet)", 9 ADJ2 (in) "Adjustable Voltage Input 2. Input to voltage monitor comparator 2 (0.5V nominal threshold). The polarity of the input is selected by the state of the SEL pin (refer to Table 1). Tie to GND if unused (with SEL = GND or Open).", 10 ADJ1 (in) "Adjustable Voltage Input 1. Input to voltage monitor comparator 1 (0.5V nominal threshold). The polarity of the input is selected by the state of the SEL pin (refer to Table 1). Tie to REF if unused (with SEL = VCC or Open).", 11 EP (power) "The Exposed Pad may be left unconnected. For better thermal contact, tie to a PCB trace. This trace must be grounded or unconnected."